# EAGLE library part TS34119 (library BEEP)
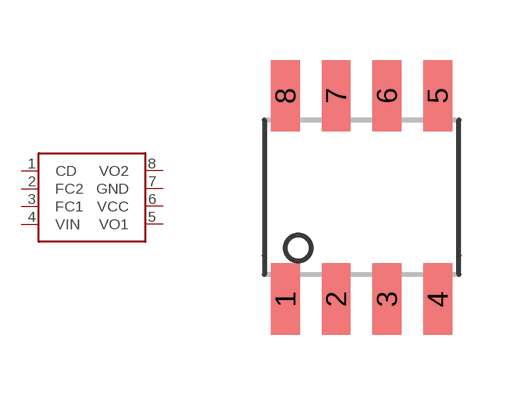
[diagram p15: symbol with the pads of SO08; footprint SO08]

Designator prefix IC

## TS34119SMD  [SO08]
1  CD
2  FC2
3  FC1
4  VIN
5  VO1
6  VCC
7  GND
8  VO2

## Footprint SO08 (pad centres in mm)
SO8 Source: http://www.irf.com/product-info/datasheets/data/irf7389.pdf
smd 0.72 x 1.78: 1 -1.905,-2.543; 2 -0.635,-2.543; 3 0.635,-2.543; 4 1.905,-2.543; 5 1.905,2.543; 6 0.635,2.543; 7 -0.635,2.543; 8 -1.905,2.543